# Altium footprint library PcbLib1.PcbLib: 1 footprints
Each footprint in its own frame and in the unit in brackets; x right, y up, seen from the top. Pads: shape width x height; smd on the part's side, far side on the other; paste and mask are expansions set on the pad; w line width, h text height; cw(c..) or ccw(c..) is an arc to the next point about the centre after c.
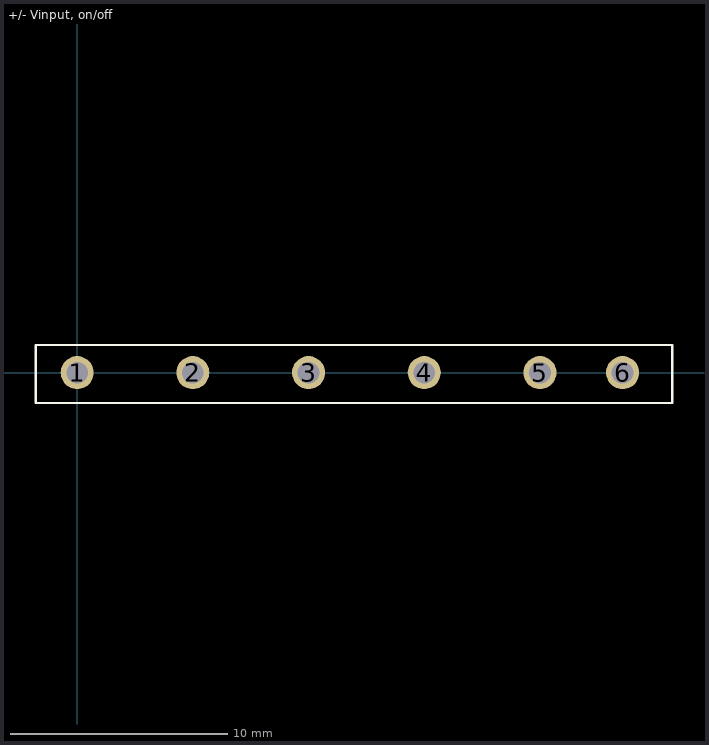
[diagram p0: the footprint, top view; thin cyan lines are the x and y axes]

## +/- Vinput, on/off [mil]
pads (6):
  round 60 hole 39.37: 1(0,0) 2(210,0) 3(420,0) 4(630,0) 5(840,0) 6(990,0)
Top Overlay:
  lines w3.94: -75,-55 -75,50 1080,50 1080,-55 -75,-55